# Altium footprint library SOT323_ONSEMI.PcbLib: 1 footprints
Each footprint in its own frame and in the unit in brackets; x right, y up, seen from the top. Pads: shape width x height; smd on the part's side, far side on the other; paste and mask are expansions set on the pad; w line width, h text height; cw(c..) or ccw(c..) is an arc to the next point about the centre after c.
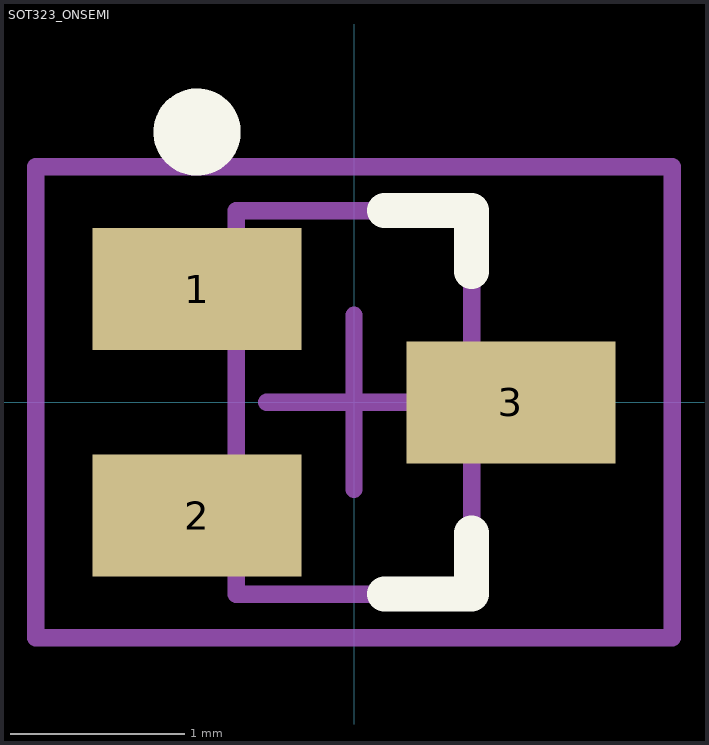
[diagram p0: the footprint, top view; thin cyan lines are the x and y axes]

## SOT323_ONSEMI [mm]
height 1
pads (3):
  rect 1.2x0.7 smd: 1(-0.9,0.65) 2(-0.9,-0.65) 3(0.9,0)
Top Overlay:
  circle w0.25: c-0.9,1.55 r0.125
  lines w0.2: 0.175,-1.1 0.675,-1.1 0.675,-0.75 ; 0.175,1.1 0.675,1.1 0.675,0.75
Mechanical 13:
  lines w0.1: -0.675,-1.1 -0.675,1.1 0.675,1.1 0.675,-1.1 -0.675,-1.1
Mechanical 15:
  lines w0.1: -0.5,0 0.5,0 ; 0,-0.5 0,0.5 ; -1.825,-1.35 -1.825,1.35 1.825,1.35 1.825,-1.35 -1.825,-1.35
3D body: height 0.9, standoff 0, extent -1.045,-1.054 1.045,1.046